# EAGLE library part AS5040 (library austriamicrosystems)
10-BIT PROGRAMMABLE MAGNETIC ROTARY ENCODER Source: www.austriamicrosystems.com .. AS5040DataSheetRev12.pdf
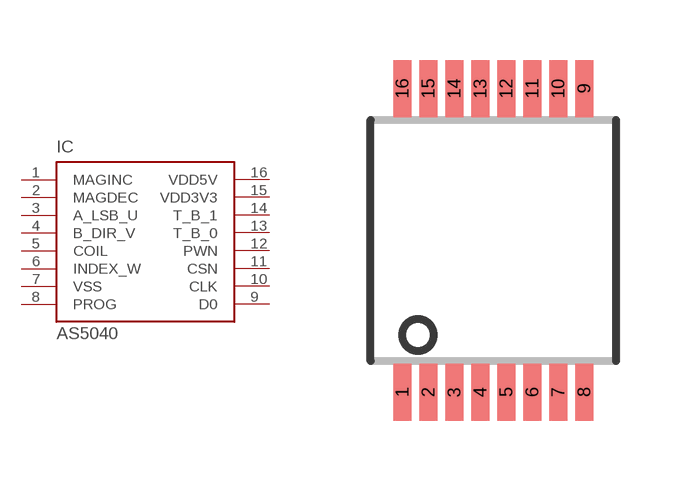
[diagram p1: symbol with the pads of SSOP16; footprint SSOP16]

Designator prefix IC

## AS5040 (MPN: AS5040ASSU; OC_FARNELL: 1630800; OC_NEWARK: 59P4059)  [SSOP16]
1  MAGINC  hiz
2  MAGDEC  hiz
3  A_LSB_U  out
4  B_DIR_V  out
5  COIL  nc
6  INDEX_W  out
7  VSS  pas
8  PROG  in
9  D0  hiz
10  CLK  in
11  CSN  in
12  PWN  pas
13  T_B_0  nc
14  T_B_1  nc
15  VDD3V3  pas
16  VDD5V  pas

## Footprint SSOP16 (pad centres in mm)
Small Shrink Outline Package SSOP 16 (5.3mm x 6.2mm) Source: www.austriamicrosystems.com .. AS5040DataSheetRev12.pdf
smd 0.46 x 1.43: 1 -2.275,-3.795; 2 -1.625,-3.795; 3 -0.975,-3.795; 4 -0.325,-3.795; 5 0.325,-3.795; 6 0.975,-3.795; 7 1.625,-3.795; 8 2.275,-3.795; 9 2.275,3.795; 10 1.625,3.795; 11 0.975,3.795; 12 0.325,3.795; 13 -0.325,3.795; 14 -0.975,3.795; 15 -1.625,3.795; 16 -2.275,3.795